# EAGLE library part SI702X (library postalecki)
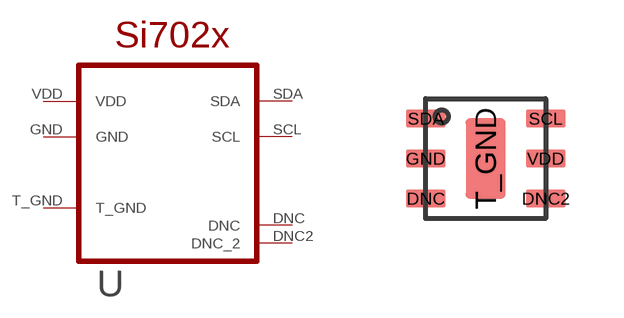
[diagram p1: symbol with the pads of DFN6; footprint DFN6]

Designator prefix -

## SI702X  [DFN6]
DNC  DNC
DNC2  DNC_2
GND  GND
SCL  SCL
SDA  SDA
T_GND  T_GND
VDD  VDD

## Footprint DFN6 (pad centres in mm)
smd 1 x 0.45: DNC -1.5,-1; DNC2 1.5,-1; GND -1.5,0; SCL 1.5,1; SDA -1.5,1; VDD 1.5,0
smd 1 x 2: T_GND 0,0